# Altium schematic symbol library 7937-0-00-15-00-00-03-0.Schlib: 1 symbol
Pins are listed as number, name and electrical type; pins without a type are passive.

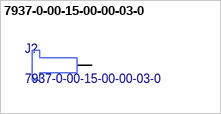
[diagram p0: symbol 7937-0-00-15-00-00-03-0]

## 7937-0-00-15-00-00-03-0
designator J?
pins: 1